# Altium schematic symbol library NodeMcu esp32.SchLib: 1 symbol
Pins are listed as number, name and electrical type; pins without a type are passive.

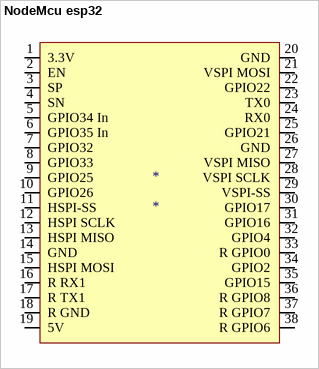
[diagram p0: symbol NodeMcu esp32]

## NodeMcu esp32
designator *
footprint esp32_nodemcu_v2
pins: 1 3.3V (power), 2 EN, 3 SP, 4 SN, 5 GPIO34 In, 6 GPIO35 In, 7 GPIO32 (io), 8 GPIO33 (io), 9 GPIO25 (io), 10 GPIO26 (io), 11 HSPI-SS, 12 HSPI SCLK, 13 HSPI MISO, 14 GND, 15 HSPI MOSI, 16 R RX1, 17 R TX1, 18 R GND, 19 5V (power), 20 GND, 21 VSPI MOSI, 22 GPIO22 (io), 23 TX0, 24 RX0, 25 GPIO21, 26 GND, 27 VSPI MISO, 28 VSPI SCLK, 29 VSPI-SS, 30 GPIO17 (io), 31 GPIO16 (io), 32 GPIO4 (io), 33 R GPIO0, 34 GPIO2 (io), 35 GPIO15 (io), 36 R GPIO8, 37 R GPIO7, 38 R GPIO6